# Altium schematic symbol library jlcpcb_2025_04_ferrites_extended_0805.schlib: 546 symbols (part 8 of 10)
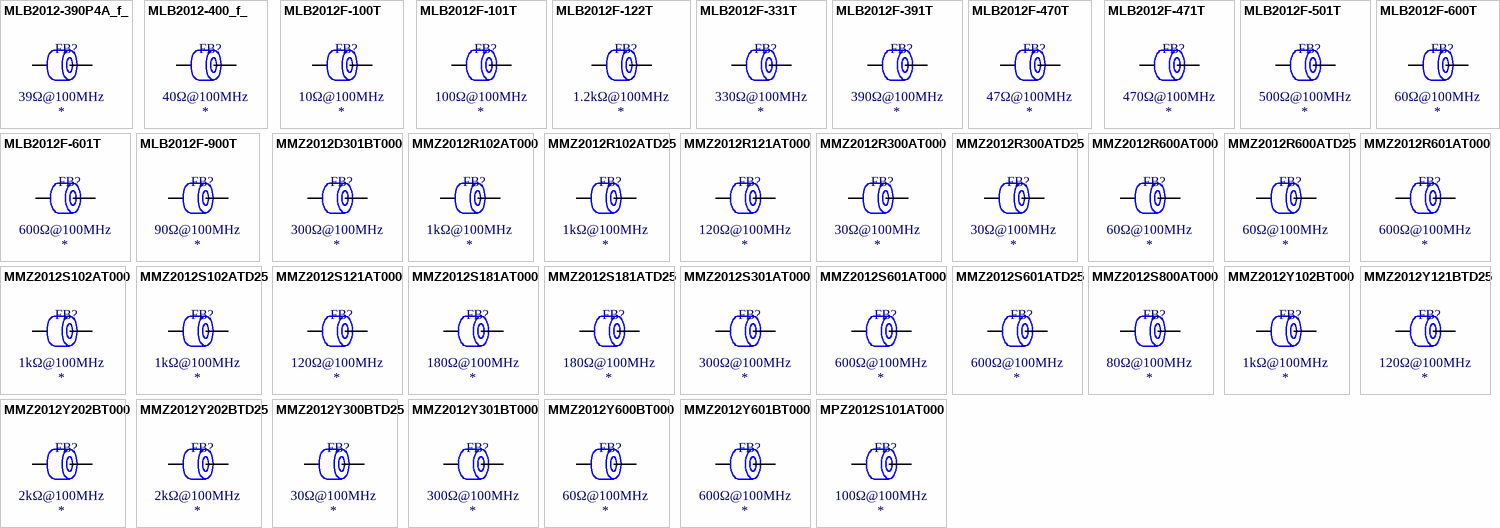
[diagram p20: symbols MLB2012-390P4A_f_ to MPZ2012S101AT000]

## MMZ2012Y202BT000
designator FB?  Impedance @ Frequency: 2kΩ@100MHz
Ferrite, 2kΩ@100MHz, ±25%, 500mΩ, 400mA, SMD 0805; Manufacturer: TDK; Manufacturer Part Number: MMZ2012Y202BT000; Package Size: 0805; JLCPCB Basic Part: No; JLCPCB Part Number: C76811; Supplier 1: LCSC; Category: Ferrite Beads; Supplier Part Number 1: C76811; Tolerance: ±25%; Rated Current: 400mA; DC Resistance: 500mΩ; RoHS: Yes; ComponentLink1Description: Datasheet; ComponentLink1URL: https://wmsc.lcsc.com/wmsc/upload/file/pdf/v2/lcsc/2304140030_TDK-MMZ2012Y202BT000_C76811.pdf; ComponentLink2Description: JLCPCB Part URL; ComponentLink2URL: https://jlcpcb.com/partdetail/C76811; ComponentLink3Description: LCSC Part URL; ComponentLink3URL: https://lcsc.com/product-detail/Ferrite-Beads_TDK-TDK-MMZ2012Y202BT000_C76811.html
footprint FB-0805 (0805 (2012M) Ferrite)
pins: 1, 2

## MMZ2012Y202BTD25
designator FB?  Impedance @ Frequency: 2kΩ@100MHz
Ferrite, 2kΩ@100MHz, ±25%, 500mΩ, 400mA, SMD 0805; Manufacturer: TDK; Manufacturer Part Number: MMZ2012Y202BTD25; Package Size: 0805; JLCPCB Basic Part: No; JLCPCB Part Number: C360718; Supplier 1: LCSC; Category: Ferrite Beads; Supplier Part Number 1: C360718; Tolerance: ±25%; Rated Current: 400mA; DC Resistance: 500mΩ; RoHS: Yes; ComponentLink1Description: Datasheet; ComponentLink1URL: https://wmsc.lcsc.com/wmsc/upload/file/pdf/v2/lcsc/2304140030_TDK-MMZ2012Y202BTD25_C360718.pdf; ComponentLink2Description: JLCPCB Part URL; ComponentLink2URL: https://jlcpcb.com/partdetail/C360718; ComponentLink3Description: LCSC Part URL; ComponentLink3URL: https://lcsc.com/product-detail/Ferrite-Beads_TDK-TDK-MMZ2012Y202BTD25_C360718.html
footprint FB-0805 (0805 (2012M) Ferrite)
pins: 1, 2

## MMZ2012Y300BTD25
designator FB?  Impedance @ Frequency: 30Ω@100MHz
Ferrite, 30Ω@100MHz, ±25%, 50mΩ, 1.5A, SMD 0805; Manufacturer: TDK; Manufacturer Part Number: MMZ2012Y300BTD25; Package Size: 0805; JLCPCB Basic Part: No; JLCPCB Part Number: C501999; Supplier 1: LCSC; Category: Ferrite Beads; Supplier Part Number 1: C501999; Tolerance: ±25%; Rated Current: 1.5A; DC Resistance: 50mΩ; RoHS: Yes; ComponentLink1Description: Datasheet; ComponentLink1URL: https://wmsc.lcsc.com/wmsc/upload/file/pdf/v2/lcsc/2304140030_TDK-MMZ2012Y300BTD25_C501999.pdf; ComponentLink2Description: JLCPCB Part URL; ComponentLink2URL: https://jlcpcb.com/partdetail/C501999; ComponentLink3Description: LCSC Part URL; ComponentLink3URL: https://lcsc.com/product-detail/Ferrite-Beads_TDK-TDK-MMZ2012Y300BTD25_C501999.html
footprint FB-0805 (0805 (2012M) Ferrite)
pins: 1, 2

## MMZ2012Y301BT000
designator FB?  Impedance @ Frequency: 300Ω@100MHz
Ferrite, 300Ω@100MHz, ±25%, 150mΩ, 600mA, SMD 0805; Manufacturer: TDK; Manufacturer Part Number: MMZ2012Y301BT000; Package Size: 0805; JLCPCB Basic Part: No; JLCPCB Part Number: C275473; Supplier 1: LCSC; Category: Ferrite Beads; Supplier Part Number 1: C275473; Tolerance: ±25%; Rated Current: 600mA; DC Resistance: 150mΩ; RoHS: Yes; ComponentLink1Description: Datasheet; ComponentLink1URL: https://wmsc.lcsc.com/wmsc/upload/file/pdf/v2/lcsc/1811070931_TDK-MMZ2012Y301BT000_C275473.pdf; ComponentLink2Description: JLCPCB Part URL; ComponentLink2URL: https://jlcpcb.com/partdetail/C275473; ComponentLink3Description: LCSC Part URL; ComponentLink3URL: https://lcsc.com/product-detail/Ferrite-Beads_TDK-TDK-MMZ2012Y301BT000_C275473.html
footprint FB-0805 (0805 (2012M) Ferrite)
pins: 1, 2

## MMZ2012Y600BT000
designator FB?  Impedance @ Frequency: 60Ω@100MHz
Ferrite, 60Ω@100MHz, 100mΩ, SMD 0805; Manufacturer: TDK; Manufacturer Part Number: MMZ2012Y600BT000; Package Size: 0805; JLCPCB Basic Part: No; JLCPCB Part Number: C695169; Supplier 1: LCSC; Category: Ferrite Beads; Supplier Part Number 1: C695169; DC Resistance: 100mΩ; RoHS: Yes; ComponentLink1Description: Datasheet; ComponentLink1URL: https://wmsc.lcsc.com/wmsc/upload/file/pdf/v2/lcsc/2008101534_TDK-MMZ2012Y600BT000_C695169.pdf; ComponentLink2Description: JLCPCB Part URL; ComponentLink2URL: https://jlcpcb.com/partdetail/C695169; ComponentLink3Description: LCSC Part URL; ComponentLink3URL: https://lcsc.com/product-detail/Ferrite-Beads_TDK-TDK-MMZ2012Y600BT000_C695169.html
pins: 1, 2

## MMZ2012Y601BT000
designator FB?  Impedance @ Frequency: 600Ω@100MHz
Ferrite, 600Ω@100MHz, ±25%, 200mΩ, 500mA, SMD 0805; Manufacturer: TDK; Manufacturer Part Number: MMZ2012Y601BT000; Package Size: 0805; JLCPCB Basic Part: No; JLCPCB Part Number: C76812; Supplier 1: LCSC; Category: Ferrite Beads; Supplier Part Number 1: C76812; Tolerance: ±25%; Rated Current: 500mA; DC Resistance: 200mΩ; RoHS: Yes; ComponentLink1Description: Datasheet; ComponentLink1URL: https://wmsc.lcsc.com/wmsc/upload/file/pdf/v2/lcsc/2304140030_TDK-MMZ2012Y601BT000_C76812.pdf; ComponentLink2Description: JLCPCB Part URL; ComponentLink2URL: https://jlcpcb.com/partdetail/C76812; ComponentLink3Description: LCSC Part URL; ComponentLink3URL: https://lcsc.com/product-detail/Ferrite-Beads_TDK-TDK-MMZ2012Y601BT000_C76812.html
footprint FB-0805 (0805 (2012M) Ferrite)
pins: 1, 2

## MPZ2012S101AT000
designator FB?  Impedance @ Frequency: 100Ω@100MHz
Ferrite, 100Ω@100MHz, ±25%, 20mΩ, 4A, SMD 0805; Manufacturer: TDK; Manufacturer Part Number: MPZ2012S101AT000; Package Size: 0805; JLCPCB Basic Part: No; JLCPCB Part Number: C15957; Supplier 1: LCSC; Category: Ferrite Beads; Supplier Part Number 1: C15957; Tolerance: ±25%; Rated Current: 4A; DC Resistance: 20mΩ; RoHS: Yes; ComponentLink1Description: Datasheet; ComponentLink1URL: https://wmsc.lcsc.com/wmsc/upload/file/pdf/v2/lcsc/1810132012_TDK-MPZ2012S101AT000_C15957.pdf; ComponentLink2Description: JLCPCB Part URL; ComponentLink2URL: https://jlcpcb.com/partdetail/C15957; ComponentLink3Description: LCSC Part URL; ComponentLink3URL: https://lcsc.com/product-detail/Ferrite-Beads_TDK-TDK-MPZ2012S101AT000_C15957.html
footprint FB-0805 (0805 (2012M) Ferrite)
pins: 1, 2

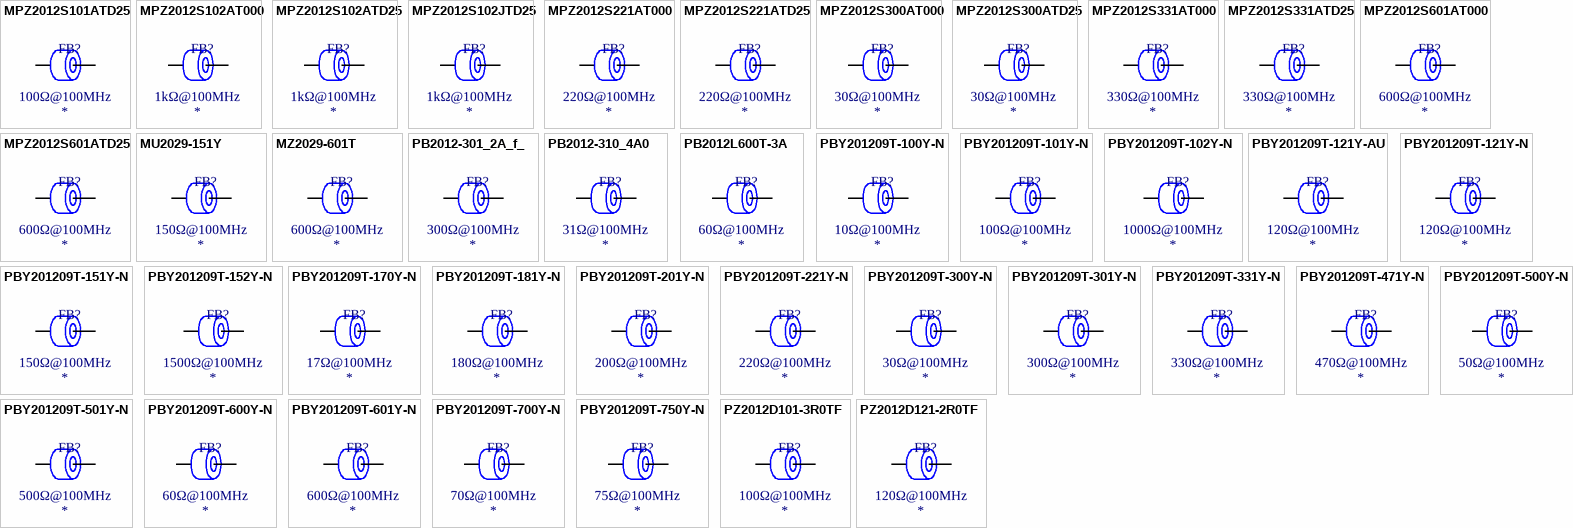
[diagram p10: symbols MPZ2012S101ATD25 to PZ2012D121-2R0TF]

## MPZ2012S101ATD25
designator FB?  Impedance @ Frequency: 100Ω@100MHz
Ferrite, 100Ω@100MHz, 20mΩ, 4A, SMD 0805; Manufacturer: TDK; Manufacturer Part Number: MPZ2012S101ATD25; Package Size: 0805; JLCPCB Basic Part: No; JLCPCB Part Number: C307776; Supplier 1: LCSC; Category: Ferrite Beads; Supplier Part Number 1: C307776; Rated Current: 4A; DC Resistance: 20mΩ; RoHS: Yes; ComponentLink1Description: Datasheet; ComponentLink1URL: https://wmsc.lcsc.com/wmsc/upload/file/pdf/v2/lcsc/2212291808_TDK-MPZ2012S101ATD25_C307776.pdf; ComponentLink2Description: JLCPCB Part URL; ComponentLink2URL: https://jlcpcb.com/partdetail/C307776; ComponentLink3Description: LCSC Part URL; ComponentLink3URL: https://lcsc.com/product-detail/Ferrite-Beads_TDK-TDK-MPZ2012S101ATD25_C307776.html
pins: 1, 2

## MPZ2012S102AT000
designator FB?  Impedance @ Frequency: 1kΩ@100MHz
Ferrite, 1kΩ@100MHz, ±25%, 150mΩ, 1.5A, SMD 0805; Manufacturer: TDK; Manufacturer Part Number: MPZ2012S102AT000; Package Size: 0805; JLCPCB Basic Part: No; JLCPCB Part Number: C76817; Supplier 1: LCSC; Category: Ferrite Beads; Supplier Part Number 1: C76817; Tolerance: ±25%; Rated Current: 1.5A; DC Resistance: 150mΩ; RoHS: Yes; ComponentLink1Description: Datasheet; ComponentLink1URL: https://wmsc.lcsc.com/wmsc/upload/file/pdf/v2/lcsc/2304140030_TDK-MPZ2012S102AT000_C76817.pdf; ComponentLink2Description: JLCPCB Part URL; ComponentLink2URL: https://jlcpcb.com/partdetail/C76817; ComponentLink3Description: LCSC Part URL; ComponentLink3URL: https://lcsc.com/product-detail/Ferrite-Beads_TDK-TDK-MPZ2012S102AT000_C76817.html
footprint FB-0805 (0805 (2012M) Ferrite)
pins: 1, 2

## MPZ2012S102ATD25
designator FB?  Impedance @ Frequency: 1kΩ@100MHz
Ferrite, 1kΩ@100MHz, ±25%, 150mΩ, 1.5A, SMD 0805; Manufacturer: TDK; Manufacturer Part Number: MPZ2012S102ATD25; Package Size: 0805; JLCPCB Basic Part: No; JLCPCB Part Number: C80983; Supplier 1: LCSC; Category: Ferrite Beads; Supplier Part Number 1: C80983; Tolerance: ±25%; Rated Current: 1.5A; DC Resistance: 150mΩ; RoHS: Yes; ComponentLink1Description: Datasheet; ComponentLink1URL: https://wmsc.lcsc.com/wmsc/upload/file/pdf/v2/lcsc/2304140030_TDK-MPZ2012S102ATD25_C80983.pdf; ComponentLink2Description: JLCPCB Part URL; ComponentLink2URL: https://jlcpcb.com/partdetail/C80983; ComponentLink3Description: LCSC Part URL; ComponentLink3URL: https://lcsc.com/product-detail/Ferrite-Beads_TDK-TDK-MPZ2012S102ATD25_C80983.html
footprint FB-0805 (0805 (2012M) Ferrite)
pins: 1, 2

## MPZ2012S102JTD25
designator FB?  Impedance @ Frequency: 1kΩ@100MHz
Ferrite, 1kΩ@100MHz, 150mΩ, 1.5A, SMD 0805; Manufacturer: TDK; Manufacturer Part Number: MPZ2012S102JTD25; Package Size: 0805; JLCPCB Basic Part: No; JLCPCB Part Number: C307777; Supplier 1: LCSC; Category: Ferrite Beads; Supplier Part Number 1: C307777; Rated Current: 1.5A; DC Resistance: 150mΩ; RoHS: Yes; ComponentLink1Description: Datasheet; ComponentLink1URL: https://wmsc.lcsc.com/wmsc/upload/file/pdf/v2/lcsc/2201071830_TDK-MPZ2012S102JTD25_C307777.pdf; ComponentLink2Description: JLCPCB Part URL; ComponentLink2URL: https://jlcpcb.com/partdetail/C307777; ComponentLink3Description: LCSC Part URL; ComponentLink3URL: https://lcsc.com/product-detail/Ferrite-Beads_TDK-TDK-MPZ2012S102JTD25_C307777.html
pins: 1, 2

## MPZ2012S221AT000
designator FB?  Impedance @ Frequency: 220Ω@100MHz
Ferrite, 220Ω@100MHz, ±25%, 40mΩ, 3A, SMD 0805; Manufacturer: TDK; Manufacturer Part Number: MPZ2012S221AT000; Package Size: 0805; JLCPCB Basic Part: No; JLCPCB Part Number: C76818; Supplier 1: LCSC; Category: Ferrite Beads; Supplier Part Number 1: C76818; Tolerance: ±25%; Rated Current: 3A; DC Resistance: 40mΩ; RoHS: Yes; ComponentLink1Description: Datasheet; ComponentLink1URL: https://wmsc.lcsc.com/wmsc/upload/file/pdf/v2/lcsc/2304140030_TDK-MPZ2012S221AT000_C76818.pdf; ComponentLink2Description: JLCPCB Part URL; ComponentLink2URL: https://jlcpcb.com/partdetail/C76818; ComponentLink3Description: LCSC Part URL; ComponentLink3URL: https://lcsc.com/product-detail/Ferrite-Beads_TDK-TDK-MPZ2012S221AT000_C76818.html
footprint FB-0805 (0805 (2012M) Ferrite)
pins: 1, 2

## MPZ2012S221ATD25
designator FB?  Impedance @ Frequency: 220Ω@100MHz
Ferrite, 220Ω@100MHz, ±25%, 40mΩ, 3A, SMD 0805; Manufacturer: TDK; Manufacturer Part Number: MPZ2012S221ATD25; Package Size: 0805; JLCPCB Basic Part: No; JLCPCB Part Number: C307778; Supplier 1: LCSC; Category: Ferrite Beads; Supplier Part Number 1: C307778; Tolerance: ±25%; Rated Current: 3A; DC Resistance: 40mΩ; RoHS: Yes; ComponentLink1Description: Datasheet; ComponentLink1URL: https://wmsc.lcsc.com/wmsc/upload/file/pdf/v2/lcsc/2001161103_TDK-MPZ2012S221ATD25_C307778.pdf; ComponentLink2Description: JLCPCB Part URL; ComponentLink2URL: https://jlcpcb.com/partdetail/C307778; ComponentLink3Description: LCSC Part URL; ComponentLink3URL: https://lcsc.com/product-detail/Ferrite-Beads_TDK-TDK-MPZ2012S221ATD25_C307778.html
footprint FB-0805 (0805 (2012M) Ferrite)
pins: 1, 2

## MPZ2012S300AT000
designator FB?  Impedance @ Frequency: 30Ω@100MHz
Ferrite, 30Ω@100MHz, 10mΩ, 6A, SMD 0805; Manufacturer: TDK; Manufacturer Part Number: MPZ2012S300AT000; Package Size: 0805; JLCPCB Basic Part: No; JLCPCB Part Number: C136227; Supplier 1: LCSC; Category: Ferrite Beads; Supplier Part Number 1: C136227; Rated Current: 6A; DC Resistance: 10mΩ; RoHS: Yes; ComponentLink1Description: Datasheet; ComponentLink1URL: https://wmsc.lcsc.com/wmsc/upload/file/pdf/v2/lcsc/1810132013_TDK-MPZ2012S300AT000_C136227.pdf; ComponentLink2Description: JLCPCB Part URL; ComponentLink2URL: https://jlcpcb.com/partdetail/C136227; ComponentLink3Description: LCSC Part URL; ComponentLink3URL: https://lcsc.com/product-detail/Ferrite-Beads_TDK-TDK-MPZ2012S300AT000_C136227.html
pins: 1, 2

## MPZ2012S300ATD25
designator FB?  Impedance @ Frequency: 30Ω@100MHz
Ferrite, 30Ω@100MHz, 10mΩ, 6A, SMD 0805; Manufacturer: TDK; Manufacturer Part Number: MPZ2012S300ATD25; Package Size: 0805; JLCPCB Basic Part: No; JLCPCB Part Number: C307779; Supplier 1: LCSC; Category: Ferrite Beads; Supplier Part Number 1: C307779; Rated Current: 6A; DC Resistance: 10mΩ; RoHS: Yes; ComponentLink1Description: Datasheet; ComponentLink1URL: https://wmsc.lcsc.com/wmsc/upload/file/pdf/v2/lcsc/2304140030_TDK-MPZ2012S300ATD25_C307779.pdf; ComponentLink2Description: JLCPCB Part URL; ComponentLink2URL: https://jlcpcb.com/partdetail/C307779; ComponentLink3Description: LCSC Part URL; ComponentLink3URL: https://lcsc.com/product-detail/Ferrite-Beads_TDK-TDK-MPZ2012S300ATD25_C307779.html
pins: 1, 2

## MPZ2012S331AT000
designator FB?  Impedance @ Frequency: 330Ω@100MHz
Ferrite, 330Ω@100MHz, ±25%, 50mΩ, 2.5A, SMD 0805; Manufacturer: TDK; Manufacturer Part Number: MPZ2012S331AT000; Package Size: 0805; JLCPCB Basic Part: No; JLCPCB Part Number: C76819; Supplier 1: LCSC; Category: Ferrite Beads; Supplier Part Number 1: C76819; Tolerance: ±25%; Rated Current: 2.5A; DC Resistance: 50mΩ; RoHS: Yes; ComponentLink1Description: Datasheet; ComponentLink1URL: https://wmsc.lcsc.com/wmsc/upload/file/pdf/v2/lcsc/2304140030_TDK-MPZ2012S331AT000_C76819.pdf; ComponentLink2Description: JLCPCB Part URL; ComponentLink2URL: https://jlcpcb.com/partdetail/C76819; ComponentLink3Description: LCSC Part URL; ComponentLink3URL: https://lcsc.com/product-detail/Ferrite-Beads_TDK-TDK-MPZ2012S331AT000_C76819.html
footprint FB-0805 (0805 (2012M) Ferrite)
pins: 1, 2

## MPZ2012S331ATD25
designator FB?  Impedance @ Frequency: 330Ω@100MHz
Ferrite, 330Ω@100MHz, ±25%, 50mΩ, 2.5A, SMD 0805; Manufacturer: TDK; Manufacturer Part Number: MPZ2012S331ATD25; Package Size: 0805; JLCPCB Basic Part: No; JLCPCB Part Number: C404671; Supplier 1: LCSC; Category: Ferrite Beads; Supplier Part Number 1: C404671; Tolerance: ±25%; Rated Current: 2.5A; DC Resistance: 50mΩ; RoHS: Yes; ComponentLink1Description: Datasheet; ComponentLink1URL: https://wmsc.lcsc.com/wmsc/upload/file/pdf/v2/lcsc/1912111437_TDK-MPZ2012S331ATD25_C404671.pdf; ComponentLink2Description: JLCPCB Part URL; ComponentLink2URL: https://jlcpcb.com/partdetail/C404671; ComponentLink3Description: LCSC Part URL; ComponentLink3URL: https://lcsc.com/product-detail/Ferrite-Beads_TDK-TDK-MPZ2012S331ATD25_C404671.html
footprint FB-0805 (0805 (2012M) Ferrite)
pins: 1, 2

## MPZ2012S601AT000
designator FB?  Impedance @ Frequency: 600Ω@100MHz
Ferrite, 600Ω@100MHz, ±25%, 100mΩ, 2A, SMD 0805; Manufacturer: TDK; Manufacturer Part Number: MPZ2012S601AT000; Package Size: 0805; JLCPCB Basic Part: No; JLCPCB Part Number: C21519; Supplier 1: LCSC; Category: Ferrite Beads; Supplier Part Number 1: C21519; Tolerance: ±25%; Rated Current: 2A; DC Resistance: 100mΩ; RoHS: Yes; ComponentLink1Description: Datasheet; ComponentLink1URL: https://wmsc.lcsc.com/wmsc/upload/file/pdf/v2/lcsc/1810132013_TDK-MPZ2012S601AT000_C21519.pdf; ComponentLink2Description: JLCPCB Part URL; ComponentLink2URL: https://jlcpcb.com/partdetail/C21519; ComponentLink3Description: LCSC Part URL; ComponentLink3URL: https://lcsc.com/product-detail/Ferrite-Beads_TDK-TDK-MPZ2012S601AT000_C21519.html
footprint FB-0805 (0805 (2012M) Ferrite)
pins: 1, 2

## MPZ2012S601ATD25
designator FB?  Impedance @ Frequency: 600Ω@100MHz
Ferrite, 600Ω@100MHz, ±25%, 100mΩ, 2A, SMD 0805; Manufacturer: TDK; Manufacturer Part Number: MPZ2012S601ATD25; Package Size: 0805; JLCPCB Basic Part: No; JLCPCB Part Number: C81034; Supplier 1: LCSC; Category: Ferrite Beads; Supplier Part Number 1: C81034; Tolerance: ±25%; Rated Current: 2A; DC Resistance: 100mΩ; RoHS: Yes; ComponentLink1Description: Datasheet; ComponentLink1URL: https://wmsc.lcsc.com/wmsc/upload/file/pdf/v2/lcsc/1810132013_TDK-MPZ2012S601ATD25_C81034.pdf; ComponentLink2Description: JLCPCB Part URL; ComponentLink2URL: https://jlcpcb.com/partdetail/C81034; ComponentLink3Description: LCSC Part URL; ComponentLink3URL: https://lcsc.com/product-detail/Ferrite-Beads_TDK-TDK-MPZ2012S601ATD25_C81034.html
footprint FB-0805 (0805 (2012M) Ferrite)
pins: 1, 2

## MU2029-151Y
designator FB?  Impedance @ Frequency: 150Ω@100MHz
Ferrite, 150Ω@100MHz, ±25%, 0.2Ω, 800mA, SMD 0805; Manufacturer: BOURNS; Manufacturer Part Number: MU2029-151Y; Package Size: 0805; JLCPCB Basic Part: No; JLCPCB Part Number: C139474; Supplier 1: LCSC; Category: Ferrite Beads; Supplier Part Number 1: C139474; Tolerance: ±25%; Rated Current: 800mA; DC Resistance: 0.2Ω; RoHS: Yes; ComponentLink1Description: Datasheet; ComponentLink1URL: https://wmsc.lcsc.com/wmsc/upload/file/pdf/v2/lcsc/2304140030_BOURNS-MU2029-151Y_C139474.pdf; ComponentLink2Description: JLCPCB Part URL; ComponentLink2URL: https://jlcpcb.com/partdetail/C139474; ComponentLink3Description: LCSC Part URL; ComponentLink3URL: https://lcsc.com/product-detail/Ferrite-Beads_BOURNS-BOURNS-MU2029-151Y_C139474.html
footprint FB-0805 (0805 (2012M) Ferrite)
pins: 1, 2

## MZ2029-601T
designator FB?  Impedance @ Frequency: 600Ω@100MHz
Ferrite, 600Ω@100MHz, ±25%, 0.4Ω, 200mA, SMD 0805; Manufacturer: BOURNS; Manufacturer Part Number: MZ2029-601T; Package Size: 0805; JLCPCB Basic Part: No; JLCPCB Part Number: C1533970; Supplier 1: LCSC; Category: Ferrite Beads; Supplier Part Number 1: C1533970; Tolerance: ±25%; Rated Current: 200mA; DC Resistance: 0.4Ω; RoHS: Yes; ComponentLink1Description: Datasheet; ComponentLink1URL: https://wmsc.lcsc.com/wmsc/upload/file/pdf/v2/lcsc/2304140030_BOURNS-MZ2029-601T_C1533970.pdf; ComponentLink2Description: JLCPCB Part URL; ComponentLink2URL: https://jlcpcb.com/partdetail/C1533970; ComponentLink3Description: LCSC Part URL; ComponentLink3URL: https://lcsc.com/product-detail/Ferrite-Beads_BOURNS-BOURNS-MZ2029-601T_C1533970.html
footprint FB-0805 (0805 (2012M) Ferrite)
pins: 1, 2

## PB2012-301_2A_f_
designator FB?  Impedance @ Frequency: 300Ω@100MHz
Ferrite, 300Ω@100MHz, ±25%, 70mΩ, 2A, SMD 0805; Manufacturer: CEC(Shenzhen Zhenhua Fu Elec); Manufacturer Part Number: PB2012-301/2A(f); Package Size: 0805; JLCPCB Basic Part: No; JLCPCB Part Number: C361687; Supplier 1: LCSC; Category: Ferrite Beads; Supplier Part Number 1: C361687; Tolerance: ±25%; Rated Current: 2A; DC Resistance: 70mΩ; RoHS: Yes; ComponentLink1Description: Datasheet; ComponentLink1URL: https://wmsc.lcsc.com/wmsc/upload/file/pdf/v2/lcsc/1912111437_CEC-Shenzhen-Zhenhua-Fu-Elec-PB2012-301-2A-f_C361687.pdf; ComponentLink2Description: JLCPCB Part URL; ComponentLink2URL: https://jlcpcb.com/partdetail/C361687; ComponentLink3Description: LCSC Part URL; ComponentLink3URL: https://lcsc.com/product-detail/Ferrite-Beads_CECShenzhen-Zhenhua-Fu-Elec-CECShenzhen-Zhenhua-Fu-Elec-PB2012-301-2Af_C361687.html
footprint FB-0805 (0805 (2012M) Ferrite)
pins: 1, 2

## PB2012-310_4A0
designator FB?  Impedance @ Frequency: 31Ω@100MHz
Ferrite, 31Ω@100MHz, ±25%, 15mΩ, 4A, SMD 0805; Manufacturer: CEC(Shenzhen Zhenhua Fu Elec); Manufacturer Part Number: PB2012-310/4A0; Package Size: 0805; JLCPCB Basic Part: No; JLCPCB Part Number: C2982972; Supplier 1: LCSC; Category: Ferrite Beads; Supplier Part Number 1: C2982972; Tolerance: ±25%; Rated Current: 4A; DC Resistance: 15mΩ; RoHS: Yes; ComponentLink1Description: Datasheet; ComponentLink1URL: https://wmsc.lcsc.com/wmsc/upload/file/pdf/v2/lcsc/2203221830_CEC-Shenzhen-Zhenhua-Fu-Elec-PB2012-310-4A0_C2982972.pdf; ComponentLink2Description: JLCPCB Part URL; ComponentLink2URL: https://jlcpcb.com/partdetail/C2982972; ComponentLink3Description: LCSC Part URL; ComponentLink3URL: https://lcsc.com/product-detail/Ferrite-Beads_CECShenzhen-Zhenhua-Fu-Elec-CECShenzhen-Zhenhua-Fu-Elec-PB2012-310-4A0_C2982972.html
footprint FB-0805 (0805 (2012M) Ferrite)
pins: 1, 2

## PB2012L600T-3A
designator FB?  Impedance @ Frequency: 60Ω@100MHz
Ferrite, 60Ω@100MHz, ±25%, 50mΩ, 3A, SMD 0805; Manufacturer: FH-BK(Guangdong Fenghua Bangke Elec); Manufacturer Part Number: PB2012L600T-3A; Package Size: 0805; JLCPCB Basic Part: No; JLCPCB Part Number: C2895177; Supplier 1: LCSC; Category: Ferrite Beads; Supplier Part Number 1: C2895177; Tolerance: ±25%; Rated Current: 3A; DC Resistance: 50mΩ; RoHS: Yes; ComponentLink1Description: Datasheet; ComponentLink1URL: https://wmsc.lcsc.com/wmsc/upload/file/pdf/v2/lcsc/2109101230_FH-BK-Guangdong-Fenghua-Bangke-Elec-PB2012L600T-3A_C2895177.pdf; ComponentLink2Description: JLCPCB Part URL; ComponentLink2URL: https://jlcpcb.com/partdetail/C2895177; ComponentLink3Description: LCSC Part URL; ComponentLink3URL: https://lcsc.com/product-detail/Ferrite-Beads_FH-BKGuangdong-Fenghua-Bangke-Elec-FH-BKGuangdong-Fenghua-Bangke-Elec-PB2012L600T-3A_C2895177.html
footprint FB-0805 (0805 (2012M) Ferrite)
pins: 1, 2

## PBY201209T-100Y-N
designator FB?  Impedance @ Frequency: 10Ω@100MHz
Ferrite, 10Ω@100MHz, ±25%, 0.01Ω, 6000mA, SMD 0805; Manufacturer: Chilisin Elec; Manufacturer Part Number: PBY201209T-100Y-N; Package Size: 0805; JLCPCB Basic Part: No; JLCPCB Part Number: C142066; Supplier 1: LCSC; Category: Ferrite Beads; Supplier Part Number 1: C142066; Tolerance: ±25%; Rated Current: 6000mA; DC Resistance: 0.01Ω; RoHS: Yes; ComponentLink1Description: Datasheet; ComponentLink1URL: https://wmsc.lcsc.com/wmsc/upload/file/pdf/v2/lcsc/2304140030_Chilisin-Elec-PBY201209T-100Y-N_C142066.pdf; ComponentLink2Description: JLCPCB Part URL; ComponentLink2URL: https://jlcpcb.com/partdetail/C142066; ComponentLink3Description: LCSC Part URL; ComponentLink3URL: https://lcsc.com/product-detail/Ferrite-Beads_Chilisin-Elec-Chilisin-Elec-PBY201209T-100Y-N_C142066.html
footprint FB-0805 (0805 (2012M) Ferrite)
pins: 1, 2

## PBY201209T-101Y-N
designator FB?  Impedance @ Frequency: 100Ω@100MHz
Ferrite, 100Ω@100MHz, ±25%, 0.04Ω, 3000mA, SMD 0805; Manufacturer: Chilisin Elec; Manufacturer Part Number: PBY201209T-101Y-N; Package Size: 0805; JLCPCB Basic Part: No; JLCPCB Part Number: C142065; Supplier 1: LCSC; Category: Ferrite Beads; Supplier Part Number 1: C142065; Tolerance: ±25%; Rated Current: 3000mA; DC Resistance: 0.04Ω; RoHS: Yes; ComponentLink1Description: Datasheet; ComponentLink1URL: https://wmsc.lcsc.com/wmsc/upload/file/pdf/v2/lcsc/2304140030_Chilisin-Elec-PBY201209T-101Y-N_C142065.pdf; ComponentLink2Description: JLCPCB Part URL; ComponentLink2URL: https://jlcpcb.com/partdetail/C142065; ComponentLink3Description: LCSC Part URL; ComponentLink3URL: https://lcsc.com/product-detail/Ferrite-Beads_Chilisin-Elec-Chilisin-Elec-PBY201209T-101Y-N_C142065.html
footprint FB-0805 (0805 (2012M) Ferrite)
pins: 1, 2

## PBY201209T-102Y-N
designator FB?  Impedance @ Frequency: 1000Ω@100MHz
Ferrite, 1000Ω@100MHz, ±25%, 0.12Ω, 1500mA, SMD 0805; Manufacturer: Chilisin Elec; Manufacturer Part Number: PBY201209T-102Y-N; Package Size: 0805; JLCPCB Basic Part: No; JLCPCB Part Number: C142064; Supplier 1: LCSC; Category: Ferrite Beads; Supplier Part Number 1: C142064; Tolerance: ±25%; Rated Current: 1500mA; DC Resistance: 0.12Ω; RoHS: Yes; ComponentLink1Description: Datasheet; ComponentLink1URL: https://wmsc.lcsc.com/wmsc/upload/file/pdf/v2/lcsc/2304140030_Chilisin-Elec-PBY201209T-102Y-N_C142064.pdf; ComponentLink2Description: JLCPCB Part URL; ComponentLink2URL: https://jlcpcb.com/partdetail/C142064; ComponentLink3Description: LCSC Part URL; ComponentLink3URL: https://lcsc.com/product-detail/Ferrite-Beads_Chilisin-Elec-Chilisin-Elec-PBY201209T-102Y-N_C142064.html
footprint FB-0805 (0805 (2012M) Ferrite)
pins: 1, 2

## PBY201209T-121Y-AU
designator FB?  Impedance @ Frequency: 120Ω@100MHz
Ferrite, 120Ω@100MHz, ±25%, 40mΩ, 3A, SMD 0805; Manufacturer: Chilisin Elec; Manufacturer Part Number: PBY201209T-121Y-AU; Package Size: 0805; JLCPCB Basic Part: No; JLCPCB Part Number: C2992338; Supplier 1: LCSC; Category: Ferrite Beads; Supplier Part Number 1: C2992338; Tolerance: ±25%; Rated Current: 3A; DC Resistance: 40mΩ; RoHS: Yes; ComponentLink1Description: Datasheet; ComponentLink1URL: https://wmsc.lcsc.com/wmsc/upload/file/pdf/v2/lcsc/2204251615_Chilisin-Elec-PBY201209T-121Y-AU_C2992338.pdf; ComponentLink2Description: JLCPCB Part URL; ComponentLink2URL: https://jlcpcb.com/partdetail/C2992338; ComponentLink3Description: LCSC Part URL; ComponentLink3URL: https://lcsc.com/product-detail/Ferrite-Beads_Chilisin-Elec-Chilisin-Elec-PBY201209T-121Y-AU_C2992338.html
footprint FB-0805 (0805 (2012M) Ferrite)
pins: 1, 2

## PBY201209T-121Y-N
designator FB?  Impedance @ Frequency: 120Ω@100MHz
Ferrite, 120Ω@100MHz, ±25%, 0.04Ω, 3000mA, SMD 0805; Manufacturer: Chilisin Elec; Manufacturer Part Number: PBY201209T-121Y-N; Package Size: 0805; JLCPCB Basic Part: No; JLCPCB Part Number: C142063; Supplier 1: LCSC; Category: Ferrite Beads; Supplier Part Number 1: C142063; Tolerance: ±25%; Rated Current: 3000mA; DC Resistance: 0.04Ω; RoHS: Yes; ComponentLink1Description: Datasheet; ComponentLink1URL: https://wmsc.lcsc.com/wmsc/upload/file/pdf/v2/lcsc/2304140030_Chilisin-Elec-PBY201209T-121Y-N_C142063.pdf; ComponentLink2Description: JLCPCB Part URL; ComponentLink2URL: https://jlcpcb.com/partdetail/C142063; ComponentLink3Description: LCSC Part URL; ComponentLink3URL: https://lcsc.com/product-detail/Ferrite-Beads_Chilisin-Elec-Chilisin-Elec-PBY201209T-121Y-N_C142063.html
footprint FB-0805 (0805 (2012M) Ferrite)
pins: 1, 2

## PBY201209T-151Y-N
designator FB?  Impedance @ Frequency: 150Ω@100MHz
Ferrite, 150Ω@100MHz, ±25%, SMD 0805; Manufacturer: Chilisin Elec; Manufacturer Part Number: PBY201209T-151Y-N; Package Size: 0805; JLCPCB Basic Part: No; JLCPCB Part Number: C142062; Supplier 1: LCSC; Category: Ferrite Beads; Supplier Part Number 1: C142062; Tolerance: ±25%; RoHS: Yes; ComponentLink1Description: Datasheet; ComponentLink1URL: https://wmsc.lcsc.com/wmsc/upload/file/pdf/v2/lcsc/2304140030_Chilisin-Elec-PBY201209T-151Y-N_C142062.pdf; ComponentLink2Description: JLCPCB Part URL; ComponentLink2URL: https://jlcpcb.com/partdetail/C142062; ComponentLink3Description: LCSC Part URL; ComponentLink3URL: https://lcsc.com/product-detail/Ferrite-Beads_Chilisin-Elec-Chilisin-Elec-PBY201209T-151Y-N_C142062.html
pins: 1, 2

## PBY201209T-152Y-N
designator FB?  Impedance @ Frequency: 1500Ω@100MHz
Ferrite, 1500Ω@100MHz, ±25%, 0.3Ω, 1000mA, SMD 0805; Manufacturer: Chilisin Elec; Manufacturer Part Number: PBY201209T-152Y-N; Package Size: 0805; JLCPCB Basic Part: No; JLCPCB Part Number: C142061; Supplier 1: LCSC; Category: Ferrite Beads; Supplier Part Number 1: C142061; Tolerance: ±25%; Rated Current: 1000mA; DC Resistance: 0.3Ω; RoHS: Yes; ComponentLink1Description: Datasheet; ComponentLink1URL: https://wmsc.lcsc.com/wmsc/upload/file/pdf/v2/lcsc/2304140030_Chilisin-Elec-PBY201209T-152Y-N_C142061.pdf; ComponentLink2Description: JLCPCB Part URL; ComponentLink2URL: https://jlcpcb.com/partdetail/C142061; ComponentLink3Description: LCSC Part URL; ComponentLink3URL: https://lcsc.com/product-detail/Ferrite-Beads_Chilisin-Elec-Chilisin-Elec-PBY201209T-152Y-N_C142061.html
footprint FB-0805 (0805 (2012M) Ferrite)
pins: 1, 2

## PBY201209T-170Y-N
designator FB?  Impedance @ Frequency: 17Ω@100MHz
Ferrite, 17Ω@100MHz, ±25%, 0.02Ω, 5000mA, SMD 0805; Manufacturer: Chilisin Elec; Manufacturer Part Number: PBY201209T-170Y-N; Package Size: 0805; JLCPCB Basic Part: No; JLCPCB Part Number: C142060; Supplier 1: LCSC; Category: Ferrite Beads; Supplier Part Number 1: C142060; Tolerance: ±25%; Rated Current: 5000mA; DC Resistance: 0.02Ω; RoHS: Yes; ComponentLink1Description: Datasheet; ComponentLink1URL: https://wmsc.lcsc.com/wmsc/upload/file/pdf/v2/lcsc/2304140030_Chilisin-Elec-PBY201209T-170Y-N_C142060.pdf; ComponentLink2Description: JLCPCB Part URL; ComponentLink2URL: https://jlcpcb.com/partdetail/C142060; ComponentLink3Description: LCSC Part URL; ComponentLink3URL: https://lcsc.com/product-detail/Ferrite-Beads_Chilisin-Elec-Chilisin-Elec-PBY201209T-170Y-N_C142060.html
footprint FB-0805 (0805 (2012M) Ferrite)
pins: 1, 2

## PBY201209T-181Y-N
designator FB?  Impedance @ Frequency: 180Ω@100MHz
Ferrite, 180Ω@100MHz, ±25%, SMD 0805; Manufacturer: Chilisin Elec; Manufacturer Part Number: PBY201209T-181Y-N; Package Size: 0805; JLCPCB Basic Part: No; JLCPCB Part Number: C142059; Supplier 1: LCSC; Category: Ferrite Beads; Supplier Part Number 1: C142059; Tolerance: ±25%; RoHS: Yes; ComponentLink1Description: Datasheet; ComponentLink1URL: https://wmsc.lcsc.com/wmsc/upload/file/pdf/v2/lcsc/2304140030_Chilisin-Elec-PBY201209T-181Y-N_C142059.pdf; ComponentLink2Description: JLCPCB Part URL; ComponentLink2URL: https://jlcpcb.com/partdetail/C142059; ComponentLink3Description: LCSC Part URL; ComponentLink3URL: https://lcsc.com/product-detail/Ferrite-Beads_Chilisin-Elec-Chilisin-Elec-PBY201209T-181Y-N_C142059.html
pins: 1, 2

## PBY201209T-201Y-N
designator FB?  Impedance @ Frequency: 200Ω@100MHz
Ferrite, 200Ω@100MHz, SMD 0805; Manufacturer: Chilisin Elec; Manufacturer Part Number: PBY201209T-201Y-N; Package Size: 0805; JLCPCB Basic Part: No; JLCPCB Part Number: C280676; Supplier 1: LCSC; Category: Ferrite Beads; Supplier Part Number 1: C280676; RoHS: Yes; ComponentLink1Description: Datasheet; ComponentLink2Description: JLCPCB Part URL; ComponentLink2URL: https://jlcpcb.com/partdetail/C280676; ComponentLink3Description: LCSC Part URL; ComponentLink3URL: https://lcsc.com/product-detail/Ferrite-Beads_Chilisin-Elec-Chilisin-Elec-PBY201209T-201Y-N_C280676.html
pins: 1, 2

## PBY201209T-221Y-N
designator FB?  Impedance @ Frequency: 220Ω@100MHz
Ferrite, 220Ω@100MHz, ±25%, 0.08Ω, 2000mA, SMD 0805; Manufacturer: Chilisin Elec; Manufacturer Part Number: PBY201209T-221Y-N; Package Size: 0805; JLCPCB Basic Part: No; JLCPCB Part Number: C130251; Supplier 1: LCSC; Category: Ferrite Beads; Supplier Part Number 1: C130251; Tolerance: ±25%; Rated Current: 2000mA; DC Resistance: 0.08Ω; RoHS: Yes; ComponentLink1Description: Datasheet; ComponentLink1URL: https://wmsc.lcsc.com/wmsc/upload/file/pdf/v2/lcsc/1811011510_Chilisin-Elec-PBY201209T-221Y-N_C130251.pdf; ComponentLink2Description: JLCPCB Part URL; ComponentLink2URL: https://jlcpcb.com/partdetail/C130251; ComponentLink3Description: LCSC Part URL; ComponentLink3URL: https://lcsc.com/product-detail/Ferrite-Beads_Chilisin-Elec-Chilisin-Elec-PBY201209T-221Y-N_C130251.html
footprint FB-0805 (0805 (2012M) Ferrite)
pins: 1, 2

## PBY201209T-300Y-N
designator FB?  Impedance @ Frequency: 30Ω@100MHz
Ferrite, 30Ω@100MHz, ±25%, 0.015Ω, 4000mA, SMD 0805; Manufacturer: Chilisin Elec; Manufacturer Part Number: PBY201209T-300Y-N; Package Size: 0805; JLCPCB Basic Part: No; JLCPCB Part Number: C142058; Supplier 1: LCSC; Category: Ferrite Beads; Supplier Part Number 1: C142058; Tolerance: ±25%; Rated Current: 4000mA; DC Resistance: 0.015Ω; RoHS: Yes; ComponentLink1Description: Datasheet; ComponentLink1URL: https://wmsc.lcsc.com/wmsc/upload/file/pdf/v2/lcsc/2304140030_Chilisin-Elec-PBY201209T-300Y-N_C142058.pdf; ComponentLink2Description: JLCPCB Part URL; ComponentLink2URL: https://jlcpcb.com/partdetail/C142058; ComponentLink3Description: LCSC Part URL; ComponentLink3URL: https://lcsc.com/product-detail/Ferrite-Beads_Chilisin-Elec-Chilisin-Elec-PBY201209T-300Y-N_C142058.html
footprint FB-0805 (0805 (2012M) Ferrite)
pins: 1, 2

## PBY201209T-301Y-N
designator FB?  Impedance @ Frequency: 300Ω@100MHz
Ferrite, 300Ω@100MHz, ±25%, 0.08Ω, 2000mA, SMD 0805; Manufacturer: Chilisin Elec; Manufacturer Part Number: PBY201209T-301Y-N; Package Size: 0805; JLCPCB Basic Part: No; JLCPCB Part Number: C108303; Supplier 1: LCSC; Category: Ferrite Beads; Supplier Part Number 1: C108303; Tolerance: ±25%; Rated Current: 2000mA; DC Resistance: 0.08Ω; RoHS: Yes; ComponentLink1Description: Datasheet; ComponentLink1URL: https://wmsc.lcsc.com/wmsc/upload/file/pdf/v2/lcsc/2304140030_Chilisin-Elec-PBY201209T-301Y-N_C108303.pdf; ComponentLink2Description: JLCPCB Part URL; ComponentLink2URL: https://jlcpcb.com/partdetail/C108303; ComponentLink3Description: LCSC Part URL; ComponentLink3URL: https://lcsc.com/product-detail/Ferrite-Beads_Chilisin-Elec-Chilisin-Elec-PBY201209T-301Y-N_C108303.html
footprint FB-0805 (0805 (2012M) Ferrite)
pins: 1, 2

## PBY201209T-331Y-N
designator FB?  Impedance @ Frequency: 330Ω@100MHz
Ferrite, 330Ω@100MHz, ±25%, 0.08Ω, 2000mA, SMD 0805; Manufacturer: Chilisin Elec; Manufacturer Part Number: PBY201209T-331Y-N; Package Size: 0805; JLCPCB Basic Part: No; JLCPCB Part Number: C142057; Supplier 1: LCSC; Category: Ferrite Beads; Supplier Part Number 1: C142057; Tolerance: ±25%; Rated Current: 2000mA; DC Resistance: 0.08Ω; RoHS: Yes; ComponentLink1Description: Datasheet; ComponentLink1URL: https://wmsc.lcsc.com/wmsc/upload/file/pdf/v2/lcsc/2304140030_Chilisin-Elec-PBY201209T-331Y-N_C142057.pdf; ComponentLink2Description: JLCPCB Part URL; ComponentLink2URL: https://jlcpcb.com/partdetail/C142057; ComponentLink3Description: LCSC Part URL; ComponentLink3URL: https://lcsc.com/product-detail/Ferrite-Beads_Chilisin-Elec-Chilisin-Elec-PBY201209T-331Y-N_C142057.html
footprint FB-0805 (0805 (2012M) Ferrite)
pins: 1, 2

## PBY201209T-471Y-N
designator FB?  Impedance @ Frequency: 470Ω@100MHz
Ferrite, 470Ω@100MHz, ±25%, 0.1Ω, 2000mA, SMD 0805; Manufacturer: Chilisin Elec; Manufacturer Part Number: PBY201209T-471Y-N; Package Size: 0805; JLCPCB Basic Part: No; JLCPCB Part Number: C280677; Supplier 1: LCSC; Category: Ferrite Beads; Supplier Part Number 1: C280677; Tolerance: ±25%; Rated Current: 2000mA; DC Resistance: 0.1Ω; RoHS: Yes; ComponentLink1Description: Datasheet; ComponentLink1URL: https://wmsc.lcsc.com/wmsc/upload/file/pdf/v2/lcsc/2304140030_Chilisin-Elec-PBY201209T-471Y-N_C280677.pdf; ComponentLink2Description: JLCPCB Part URL; ComponentLink2URL: https://jlcpcb.com/partdetail/C280677; ComponentLink3Description: LCSC Part URL; ComponentLink3URL: https://lcsc.com/product-detail/Ferrite-Beads_Chilisin-Elec-Chilisin-Elec-PBY201209T-471Y-N_C280677.html
footprint FB-0805 (0805 (2012M) Ferrite)
pins: 1, 2

## PBY201209T-500Y-N
designator FB?  Impedance @ Frequency: 50Ω@100MHz
Ferrite, 50Ω@100MHz, ±25%, 0.025Ω, 3000mA, SMD 0805; Manufacturer: Chilisin Elec; Manufacturer Part Number: PBY201209T-500Y-N; Package Size: 0805; JLCPCB Basic Part: No; JLCPCB Part Number: C142056; Supplier 1: LCSC; Category: Ferrite Beads; Supplier Part Number 1: C142056; Tolerance: ±25%; Rated Current: 3000mA; DC Resistance: 0.025Ω; RoHS: Yes; ComponentLink1Description: Datasheet; ComponentLink1URL: https://wmsc.lcsc.com/wmsc/upload/file/pdf/v2/lcsc/2304140030_Chilisin-Elec-PBY201209T-500Y-N_C142056.pdf; ComponentLink2Description: JLCPCB Part URL; ComponentLink2URL: https://jlcpcb.com/partdetail/C142056; ComponentLink3Description: LCSC Part URL; ComponentLink3URL: https://lcsc.com/product-detail/Ferrite-Beads_Chilisin-Elec-Chilisin-Elec-PBY201209T-500Y-N_C142056.html
footprint FB-0805 (0805 (2012M) Ferrite)
pins: 1, 2

## PBY201209T-501Y-N
designator FB?  Impedance @ Frequency: 500Ω@100MHz
Ferrite, 500Ω@100MHz, ±25%, SMD 0805; Manufacturer: Chilisin Elec; Manufacturer Part Number: PBY201209T-501Y-N; Package Size: 0805; JLCPCB Basic Part: No; JLCPCB Part Number: C142055; Supplier 1: LCSC; Category: Ferrite Beads; Supplier Part Number 1: C142055; Tolerance: ±25%; RoHS: Yes; ComponentLink1Description: Datasheet; ComponentLink1URL: https://wmsc.lcsc.com/wmsc/upload/file/pdf/v2/lcsc/2304140030_Chilisin-Elec-PBY201209T-501Y-N_C142055.pdf; ComponentLink2Description: JLCPCB Part URL; ComponentLink2URL: https://jlcpcb.com/partdetail/C142055; ComponentLink3Description: LCSC Part URL; ComponentLink3URL: https://lcsc.com/product-detail/Ferrite-Beads_Chilisin-Elec-Chilisin-Elec-PBY201209T-501Y-N_C142055.html
pins: 1, 2

## PBY201209T-600Y-N
designator FB?  Impedance @ Frequency: 60Ω@100MHz
Ferrite, 60Ω@100MHz, ±25%, 0.03Ω, 3000mA, SMD 0805; Manufacturer: Chilisin Elec; Manufacturer Part Number: PBY201209T-600Y-N; Package Size: 0805; JLCPCB Basic Part: No; JLCPCB Part Number: C142054; Supplier 1: LCSC; Category: Ferrite Beads; Supplier Part Number 1: C142054; Tolerance: ±25%; Rated Current: 3000mA; DC Resistance: 0.03Ω; RoHS: Yes; ComponentLink1Description: Datasheet; ComponentLink1URL: https://wmsc.lcsc.com/wmsc/upload/file/pdf/v2/lcsc/2304140030_Chilisin-Elec-PBY201209T-600Y-N_C142054.pdf; ComponentLink2Description: JLCPCB Part URL; ComponentLink2URL: https://jlcpcb.com/partdetail/C142054; ComponentLink3Description: LCSC Part URL; ComponentLink3URL: https://lcsc.com/product-detail/Ferrite-Beads_Chilisin-Elec-Chilisin-Elec-PBY201209T-600Y-N_C142054.html
footprint FB-0805 (0805 (2012M) Ferrite)
pins: 1, 2

## PBY201209T-601Y-N
designator FB?  Impedance @ Frequency: 600Ω@100MHz
Ferrite, 600Ω@100MHz, ±25%, 0.1Ω, 2000mA, SMD 0805; Manufacturer: Chilisin Elec; Manufacturer Part Number: PBY201209T-601Y-N; Package Size: 0805; JLCPCB Basic Part: No; JLCPCB Part Number: C108304; Supplier 1: LCSC; Category: Ferrite Beads; Supplier Part Number 1: C108304; Tolerance: ±25%; Rated Current: 2000mA; DC Resistance: 0.1Ω; RoHS: Yes; ComponentLink1Description: Datasheet; ComponentLink1URL: https://wmsc.lcsc.com/wmsc/upload/file/pdf/v2/lcsc/2304140030_Chilisin-Elec-PBY201209T-601Y-N_C108304.pdf; ComponentLink2Description: JLCPCB Part URL; ComponentLink2URL: https://jlcpcb.com/partdetail/C108304; ComponentLink3Description: LCSC Part URL; ComponentLink3URL: https://lcsc.com/product-detail/Ferrite-Beads_Chilisin-Elec-Chilisin-Elec-PBY201209T-601Y-N_C108304.html
footprint FB-0805 (0805 (2012M) Ferrite)
pins: 1, 2

## PBY201209T-700Y-N
designator FB?  Impedance @ Frequency: 70Ω@100MHz
Ferrite, 70Ω@100MHz, ±25%, SMD 0805; Manufacturer: Chilisin Elec; Manufacturer Part Number: PBY201209T-700Y-N; Package Size: 0805; JLCPCB Basic Part: No; JLCPCB Part Number: C285664; Supplier 1: LCSC; Category: Ferrite Beads; Supplier Part Number 1: C285664; Tolerance: ±25%; RoHS: Yes; ComponentLink1Description: Datasheet; ComponentLink1URL: https://wmsc.lcsc.com/wmsc/upload/file/pdf/v2/lcsc/1912111437_Chilisin-Elec-PBY201209T-700Y-N_C285664.pdf; ComponentLink2Description: JLCPCB Part URL; ComponentLink2URL: https://jlcpcb.com/partdetail/C285664; ComponentLink3Description: LCSC Part URL; ComponentLink3URL: https://lcsc.com/product-detail/Ferrite-Beads_Chilisin-Elec-Chilisin-Elec-PBY201209T-700Y-N_C285664.html
pins: 1, 2

## PBY201209T-750Y-N
designator FB?  Impedance @ Frequency: 75Ω@100MHz
Ferrite, 75Ω@100MHz, ±25%, SMD 0805; Manufacturer: Chilisin Elec; Manufacturer Part Number: PBY201209T-750Y-N; Package Size: 0805; JLCPCB Basic Part: No; JLCPCB Part Number: C365723; Supplier 1: LCSC; Category: Ferrite Beads; Supplier Part Number 1: C365723; Tolerance: ±25%; RoHS: Yes; ComponentLink1Description: Datasheet; ComponentLink1URL: https://wmsc.lcsc.com/wmsc/upload/file/pdf/v2/lcsc/2304140030_Chilisin-Elec-PBY201209T-750Y-N_C365723.pdf; ComponentLink2Description: JLCPCB Part URL; ComponentLink2URL: https://jlcpcb.com/partdetail/C365723; ComponentLink3Description: LCSC Part URL; ComponentLink3URL: https://lcsc.com/product-detail/Ferrite-Beads_Chilisin-Elec-Chilisin-Elec-PBY201209T-750Y-N_C365723.html
pins: 1, 2

## PZ2012D101-3R0TF
designator FB?  Impedance @ Frequency: 100Ω@100MHz
Ferrite, 100Ω@100MHz, ±25%, 3A, SMD 0805; Manufacturer: Sunlord; Manufacturer Part Number: PZ2012D101-3R0TF; Package Size: 0805; JLCPCB Basic Part: No; JLCPCB Part Number: C316421; Supplier 1: LCSC; Category: Ferrite Beads; Supplier Part Number 1: C316421; Tolerance: ±25%; Rated Current: 3A; RoHS: Yes; ComponentLink1Description: Datasheet; ComponentLink1URL: https://wmsc.lcsc.com/wmsc/upload/file/pdf/v2/lcsc/2310301641_Sunlord-PZ2012D101-3R0TF_C316421.pdf; ComponentLink2Description: JLCPCB Part URL; ComponentLink2URL: https://jlcpcb.com/partdetail/C316421; ComponentLink3Description: LCSC Part URL; ComponentLink3URL: https://lcsc.com/product-detail/Ferrite-Beads_Sunlord-Sunlord-PZ2012D101-3R0TF_C316421.html
pins: 1, 2

## PZ2012D121-2R0TF
designator FB?  Impedance @ Frequency: 120Ω@100MHz
Ferrite, 120Ω@100MHz, ±25%, 2A, SMD 0805; Manufacturer: Sunlord; Manufacturer Part Number: PZ2012D121-2R0TF; Package Size: 0805; JLCPCB Basic Part: No; JLCPCB Part Number: C370072; Supplier 1: LCSC; Category: Ferrite Beads; Supplier Part Number 1: C370072; Tolerance: ±25%; Rated Current: 2A; RoHS: Yes; ComponentLink1Description: Datasheet; ComponentLink1URL: https://wmsc.lcsc.com/wmsc/upload/file/pdf/v2/lcsc/2310301641_Sunlord-PZ2012D121-2R0TF_C370072.pdf; ComponentLink2Description: JLCPCB Part URL; ComponentLink2URL: https://jlcpcb.com/partdetail/C370072; ComponentLink3Description: LCSC Part URL; ComponentLink3URL: https://lcsc.com/product-detail/Ferrite-Beads_Sunlord-Sunlord-PZ2012D121-2R0TF_C370072.html
pins: 1, 2

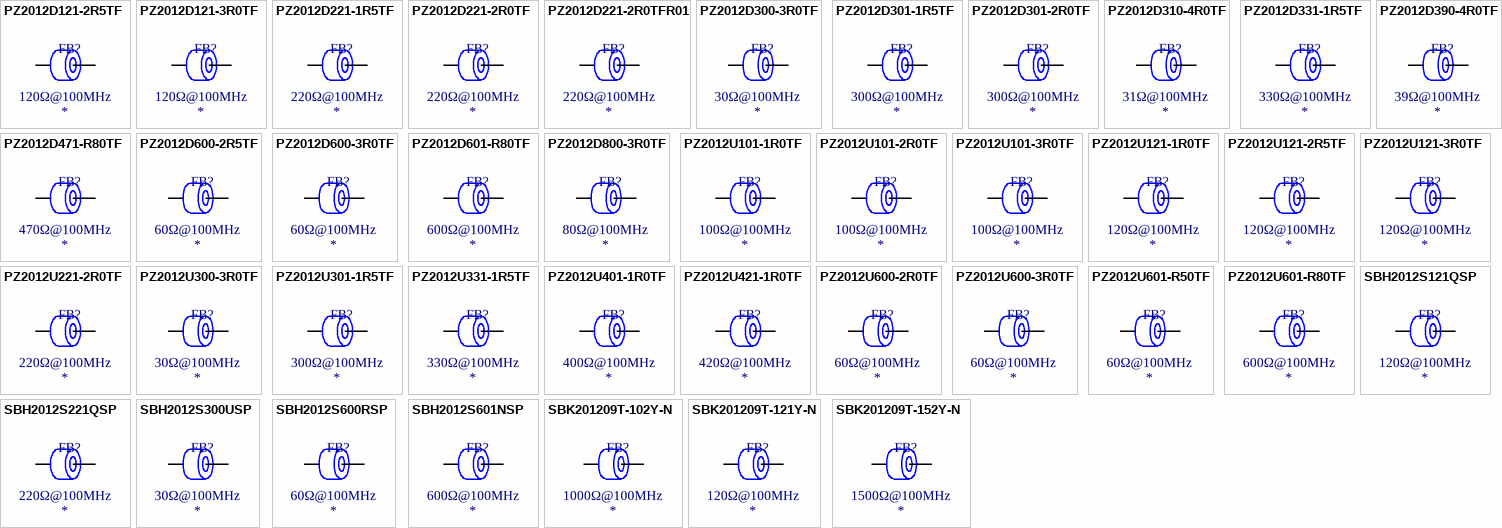
[diagram p11: symbols PZ2012D121-2R5TF to SBK201209T-152Y-N]

## PZ2012D121-2R5TF
designator FB?  Impedance @ Frequency: 120Ω@100MHz
Ferrite, 120Ω@100MHz, ±25%, 0.06Ω, 2500mA, SMD 0805; Manufacturer: Sunlord; Manufacturer Part Number: PZ2012D121-2R5TF; Package Size: 0805; JLCPCB Basic Part: No; JLCPCB Part Number: C80660; Supplier 1: LCSC; Category: Ferrite Beads; Supplier Part Number 1: C80660; Tolerance: ±25%; Rated Current: 2500mA; DC Resistance: 0.06Ω; RoHS: Yes; ComponentLink1Description: Datasheet; ComponentLink1URL: https://wmsc.lcsc.com/wmsc/upload/file/pdf/v2/lcsc/2310301641_Sunlord-PZ2012D121-2R5TF_C80660.pdf; ComponentLink2Description: JLCPCB Part URL; ComponentLink2URL: https://jlcpcb.com/partdetail/C80660; ComponentLink3Description: LCSC Part URL; ComponentLink3URL: https://lcsc.com/product-detail/Ferrite-Beads_Sunlord-Sunlord-PZ2012D121-2R5TF_C80660.html
footprint FB-0805 (0805 (2012M) Ferrite)
pins: 1, 2

## PZ2012D121-3R0TF
designator FB?  Impedance @ Frequency: 120Ω@100MHz
Ferrite, 120Ω@100MHz, ±25%, 3A, SMD 0805; Manufacturer: Sunlord; Manufacturer Part Number: PZ2012D121-3R0TF; Package Size: 0805; JLCPCB Basic Part: No; JLCPCB Part Number: C72990; Supplier 1: LCSC; Category: Ferrite Beads; Supplier Part Number 1: C72990; Tolerance: ±25%; Rated Current: 3A; RoHS: Yes; ComponentLink1Description: Datasheet; ComponentLink1URL: https://wmsc.lcsc.com/wmsc/upload/file/pdf/v2/lcsc/2310301641_Sunlord-PZ2012D121-3R0TF_C72990.pdf; ComponentLink2Description: JLCPCB Part URL; ComponentLink2URL: https://jlcpcb.com/partdetail/C72990; ComponentLink3Description: LCSC Part URL; ComponentLink3URL: https://lcsc.com/product-detail/Ferrite-Beads_Sunlord-Sunlord-PZ2012D121-3R0TF-_C72990.html
pins: 1, 2

## PZ2012D221-1R5TF
designator FB?  Impedance @ Frequency: 220Ω@100MHz
Ferrite, 220Ω@100MHz, ±25%, 0.08Ω, 1500mA, SMD 0805; Manufacturer: Sunlord; Manufacturer Part Number: PZ2012D221-1R5TF; Package Size: 0805; JLCPCB Basic Part: No; JLCPCB Part Number: C61011; Supplier 1: LCSC; Category: Ferrite Beads; Supplier Part Number 1: C61011; Tolerance: ±25%; Rated Current: 1500mA; DC Resistance: 0.08Ω; RoHS: Yes; ComponentLink1Description: Datasheet; ComponentLink1URL: https://wmsc.lcsc.com/wmsc/upload/file/pdf/v2/lcsc/2310301641_Sunlord-PZ2012D221-1R5TF_C61011.pdf; ComponentLink2Description: JLCPCB Part URL; ComponentLink2URL: https://jlcpcb.com/partdetail/C61011; ComponentLink3Description: LCSC Part URL; ComponentLink3URL: https://lcsc.com/product-detail/Ferrite-Beads_Sunlord-Sunlord-PZ2012D221-1R5TF_C61011.html
footprint FB-0805 (0805 (2012M) Ferrite)
pins: 1, 2

## PZ2012D221-2R0TF
designator FB?  Impedance @ Frequency: 220Ω@100MHz
Ferrite, 220Ω@100MHz, ±25%, 2A, SMD 0805; Manufacturer: Sunlord; Manufacturer Part Number: PZ2012D221-2R0TF; Package Size: 0805; JLCPCB Basic Part: No; JLCPCB Part Number: C316420; Supplier 1: LCSC; Category: Ferrite Beads; Supplier Part Number 1: C316420; Tolerance: ±25%; Rated Current: 2A; RoHS: Yes; ComponentLink1Description: Datasheet; ComponentLink1URL: https://wmsc.lcsc.com/wmsc/upload/file/pdf/v2/lcsc/2310301641_Sunlord-PZ2012D221-2R0TF_C316420.pdf; ComponentLink2Description: JLCPCB Part URL; ComponentLink2URL: https://jlcpcb.com/partdetail/C316420; ComponentLink3Description: LCSC Part URL; ComponentLink3URL: https://lcsc.com/product-detail/Ferrite-Beads_Sunlord-Sunlord-PZ2012D221-2R0TF_C316420.html
pins: 1, 2

## PZ2012D221-2R0TFR01
designator FB?  Impedance @ Frequency: 220Ω@100MHz
Ferrite, 220Ω@100MHz, ±25%, 50mΩ, 2A, SMD 0805; Manufacturer: Sunlord; Manufacturer Part Number: PZ2012D221-2R0TFR01; Package Size: 0805; JLCPCB Basic Part: No; JLCPCB Part Number: C2994661; Supplier 1: LCSC; Category: Ferrite Beads; Supplier Part Number 1: C2994661; Tolerance: ±25%; Rated Current: 2A; DC Resistance: 50mΩ; RoHS: Yes; ComponentLink1Description: Datasheet; ComponentLink1URL: https://wmsc.lcsc.com/wmsc/upload/file/pdf/v2/lcsc/2310301641_Sunlord-PZ2012D221-2R0TFR01_C2994661.pdf; ComponentLink2Description: JLCPCB Part URL; ComponentLink2URL: https://jlcpcb.com/partdetail/C2994661; ComponentLink3Description: LCSC Part URL; ComponentLink3URL: https://lcsc.com/product-detail/Ferrite-Beads_Sunlord-Sunlord-PZ2012D221-2R0TFR01_C2994661.html
footprint FB-0805 (0805 (2012M) Ferrite)
pins: 1, 2

## PZ2012D300-3R0TF
designator FB?  Impedance @ Frequency: 30Ω@100MHz
Ferrite, 30Ω@100MHz, ±25%, 3A, SMD 0805; Manufacturer: Sunlord; Manufacturer Part Number: PZ2012D300-3R0TF; Package Size: 0805; JLCPCB Basic Part: No; JLCPCB Part Number: C370074; Supplier 1: LCSC; Category: Ferrite Beads; Supplier Part Number 1: C370074; Tolerance: ±25%; Rated Current: 3A; RoHS: Yes; ComponentLink1Description: Datasheet; ComponentLink1URL: https://wmsc.lcsc.com/wmsc/upload/file/pdf/v2/lcsc/2310301641_Sunlord-PZ2012D300-3R0TF_C370074.pdf; ComponentLink2Description: JLCPCB Part URL; ComponentLink2URL: https://jlcpcb.com/partdetail/C370074; ComponentLink3Description: LCSC Part URL; ComponentLink3URL: https://lcsc.com/product-detail/Ferrite-Beads_Sunlord-Sunlord-PZ2012D300-3R0TF_C370074.html
pins: 1, 2

## PZ2012D301-1R5TF
designator FB?  Impedance @ Frequency: 300Ω@100MHz
Ferrite, 300Ω@100MHz, ±25%, 0.12Ω, 1500mA, SMD 0805; Manufacturer: Sunlord; Manufacturer Part Number: PZ2012D301-1R5TF; Package Size: 0805; JLCPCB Basic Part: No; JLCPCB Part Number: C61012; Supplier 1: LCSC; Category: Ferrite Beads; Supplier Part Number 1: C61012; Tolerance: ±25%; Rated Current: 1500mA; DC Resistance: 0.12Ω; RoHS: Yes; ComponentLink1Description: Datasheet; ComponentLink1URL: https://wmsc.lcsc.com/wmsc/upload/file/pdf/v2/lcsc/2310301641_Sunlord-PZ2012D301-1R5TF_C61012.pdf; ComponentLink2Description: JLCPCB Part URL; ComponentLink2URL: https://jlcpcb.com/partdetail/C61012; ComponentLink3Description: LCSC Part URL; ComponentLink3URL: https://lcsc.com/product-detail/Ferrite-Beads_Sunlord-Sunlord-PZ2012D301-1R5TF_C61012.html
footprint FB-0805 (0805 (2012M) Ferrite)
pins: 1, 2

## PZ2012D301-2R0TF
designator FB?  Impedance @ Frequency: 300Ω@100MHz
Ferrite, 300Ω@100MHz, ±25%, 2A, SMD 0805; Manufacturer: Sunlord; Manufacturer Part Number: PZ2012D301-2R0TF; Package Size: 0805; JLCPCB Basic Part: No; JLCPCB Part Number: C370075; Supplier 1: LCSC; Category: Ferrite Beads; Supplier Part Number 1: C370075; Tolerance: ±25%; Rated Current: 2A; RoHS: Yes; ComponentLink1Description: Datasheet; ComponentLink1URL: https://wmsc.lcsc.com/wmsc/upload/file/pdf/v2/lcsc/2310301641_Sunlord-PZ2012D301-2R0TF_C370075.pdf; ComponentLink2Description: JLCPCB Part URL; ComponentLink2URL: https://jlcpcb.com/partdetail/C370075; ComponentLink3Description: LCSC Part URL; ComponentLink3URL: https://lcsc.com/product-detail/Ferrite-Beads_Sunlord-Sunlord-PZ2012D301-2R0TF_C370075.html
pins: 1, 2

## PZ2012D310-4R0TF
designator FB?  Impedance @ Frequency: 31Ω@100MHz
Ferrite, 31Ω@100MHz, ±25%, 4A, SMD 0805; Manufacturer: Sunlord; Manufacturer Part Number: PZ2012D310-4R0TF; Package Size: 0805; JLCPCB Basic Part: No; JLCPCB Part Number: C370076; Supplier 1: LCSC; Category: Ferrite Beads; Supplier Part Number 1: C370076; Tolerance: ±25%; Rated Current: 4A; RoHS: Yes; ComponentLink1Description: Datasheet; ComponentLink1URL: https://wmsc.lcsc.com/wmsc/upload/file/pdf/v2/lcsc/2310301641_Sunlord-PZ2012D310-4R0TF_C370076.pdf; ComponentLink2Description: JLCPCB Part URL; ComponentLink2URL: https://jlcpcb.com/partdetail/C370076; ComponentLink3Description: LCSC Part URL; ComponentLink3URL: https://lcsc.com/product-detail/Ferrite-Beads_Sunlord-Sunlord-PZ2012D310-4R0TF_C370076.html
pins: 1, 2

## PZ2012D331-1R5TF
designator FB?  Impedance @ Frequency: 330Ω@100MHz
Ferrite, 330Ω@100MHz, ±25%, 1.5A, SMD 0805; Manufacturer: Sunlord; Manufacturer Part Number: PZ2012D331-1R5TF; Package Size: 0805; JLCPCB Basic Part: No; JLCPCB Part Number: C279916; Supplier 1: LCSC; Category: Ferrite Beads; Supplier Part Number 1: C279916; Tolerance: ±25%; Rated Current: 1.5A; RoHS: Yes; ComponentLink1Description: Datasheet; ComponentLink1URL: https://wmsc.lcsc.com/wmsc/upload/file/pdf/v2/lcsc/2310301641_Sunlord-PZ2012D331-1R5TF_C279916.pdf; ComponentLink2Description: JLCPCB Part URL; ComponentLink2URL: https://jlcpcb.com/partdetail/C279916; ComponentLink3Description: LCSC Part URL; ComponentLink3URL: https://lcsc.com/product-detail/Ferrite-Beads_Sunlord-Sunlord-PZ2012D331-1R5TF_C279916.html
pins: 1, 2

## PZ2012D390-4R0TF
designator FB?  Impedance @ Frequency: 39Ω@100MHz
Ferrite, 39Ω@100MHz, ±25%, 0.02Ω, 4000mA, SMD 0805; Manufacturer: Sunlord; Manufacturer Part Number: PZ2012D390-4R0TF; Package Size: 0805; JLCPCB Basic Part: No; JLCPCB Part Number: C98290; Supplier 1: LCSC; Category: Ferrite Beads; Supplier Part Number 1: C98290; Tolerance: ±25%; Rated Current: 4000mA; DC Resistance: 0.02Ω; RoHS: Yes; ComponentLink1Description: Datasheet; ComponentLink1URL: https://wmsc.lcsc.com/wmsc/upload/file/pdf/v2/lcsc/2310301641_Sunlord-PZ2012D390-4R0TF_C98290.pdf; ComponentLink2Description: JLCPCB Part URL; ComponentLink2URL: https://jlcpcb.com/partdetail/C98290; ComponentLink3Description: LCSC Part URL; ComponentLink3URL: https://lcsc.com/product-detail/Ferrite-Beads_Sunlord-Sunlord-PZ2012D390-4R0TF_C98290.html
footprint FB-0805 (0805 (2012M) Ferrite)
pins: 1, 2